# Altium schematic symbol library MPPTLib.SchLib: 34 symbols
Pins are listed as number, name and electrical type; pins without a type are passive.

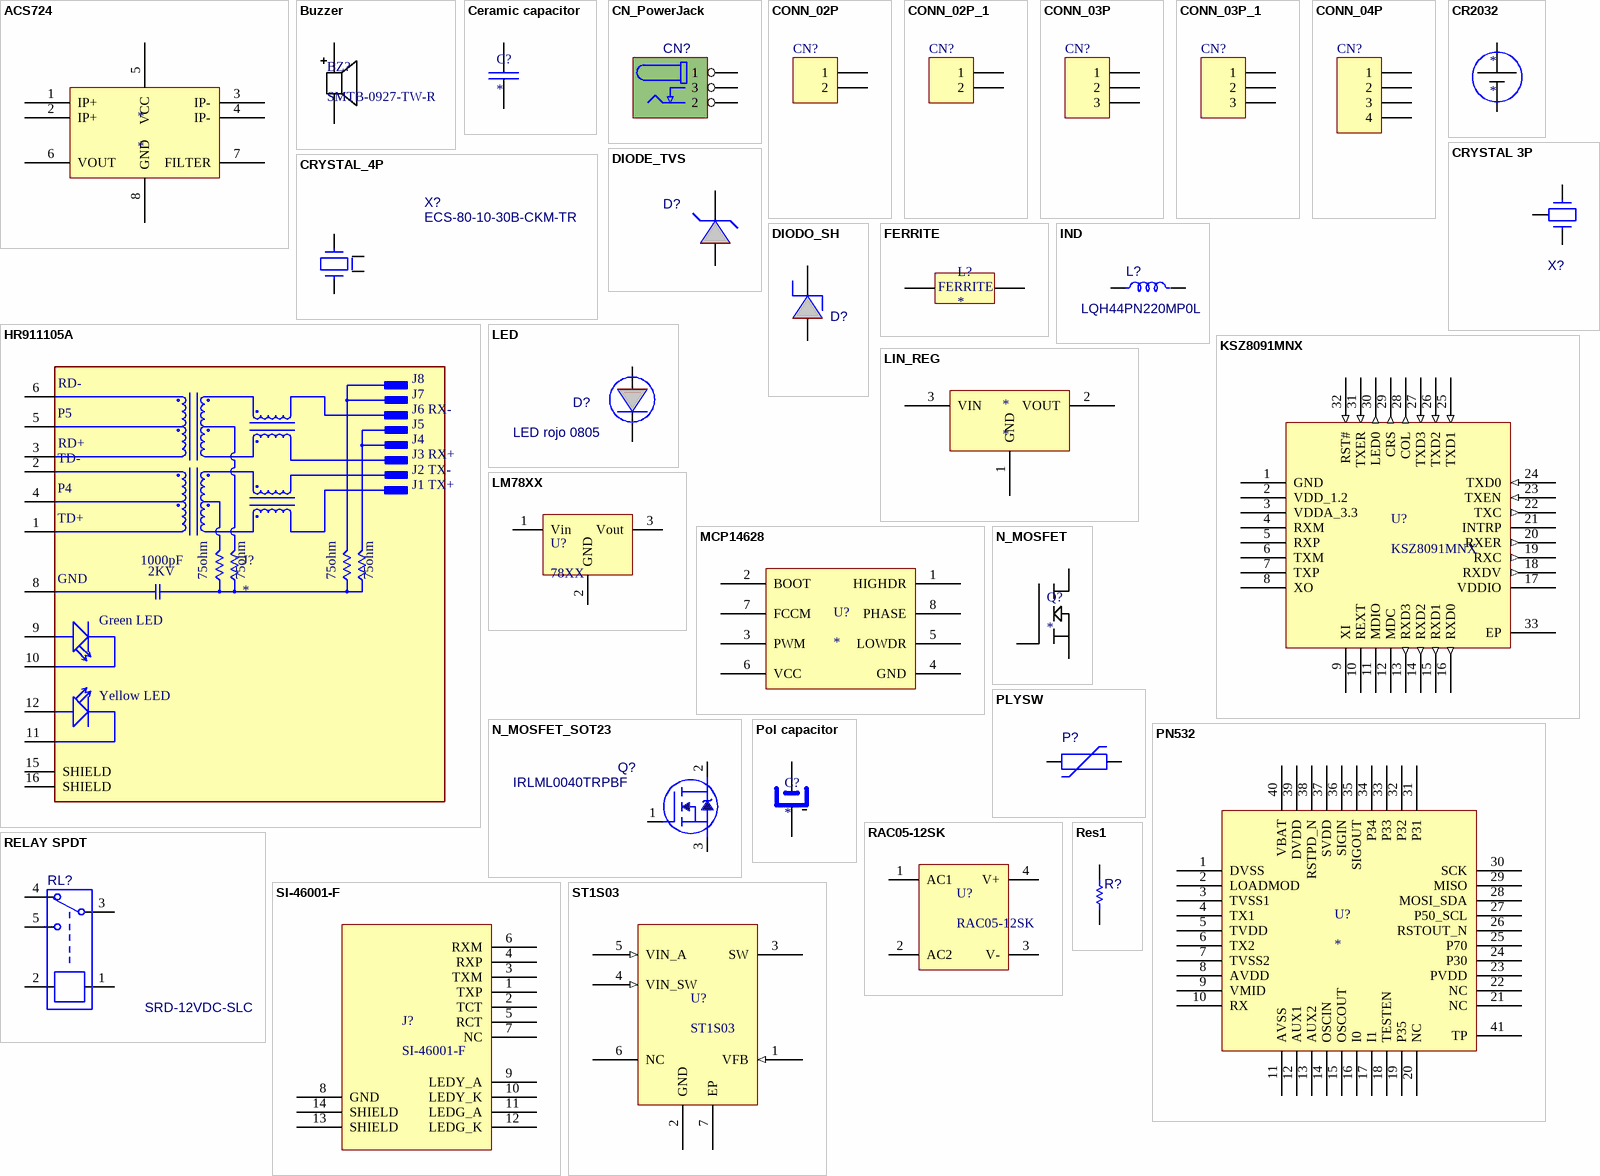
[diagram p0: symbols ACS724 to ST1S03]

## ACS724
designator *
pins: 1 IP+, 2 IP+, 3 IP-, 4 IP-, 5 VCC, 6 VOUT, 7 FILTER, 8 GND

## Buzzer
designator BZ?, comment SMTB-0927-TW-R
pins: 1, 2

## Ceramic capacitor
designator C?
Ceramic Capacitor
pins: 1, 2

## CN_PowerJack
designator CN?
Barrel Power Connector
pins: 1 (power), 2 (power), 3 (power)

## CONN_02P
designator CN?
Connector Generic 2 Vias
pins: 1, 2

## CONN_02P_1
designator CN?
Connector Generic 2 Vias
pins: 1, 2

## CONN_03P
designator CN?
Connector Generic 3 Vias
pins: 1, 2, 3

## CONN_03P_1
designator CN?
Connector Generic 3 Vias
pins: 1, 2, 3

## CONN_04P
designator CN?
Connector Generic 4 Vias
pins: 1, 2, 3, 4

## CR2032
designator *
pins: 1 V-, 2 V+

## CRYSTAL 3P
designator X?
Crystal 2 Vias + GND
footprint AB26TQF
pins: 1, 2, 3

## CRYSTAL_4P
designator X?, comment ECS-80-10-30B-CKM-TR
Crystal 4 Vias + GND
pins: 1, 2, 3, 4

## DIODE_TVS
designator D?
Unidirectional TVS
pins: 1 A, 2 K

## DIODO_SH
designator D?
Diode Shottky
pins: 1 A, 2 K

## FERRITE
designator L?
pins: 1 2, 2

## HR911105A
designator J?
DIP RJ45 Connector;; MP: HR911105A; Package: None; Value: *; Price: None; Availability: Unavailable
footprint HANRUN_HR911105A
pins: 1 TD+, 2 TD-, 3 RD+, 4 P4, 5 P5, 6 RD-, 8 GND (power), 9 GA, 10 GC, 11 YC, 12 YA, 15 SHIELD, 16 SHIELD
text: J8; J7; J6 RX-; J5; J4; J3 RX+; J2 TX-; J1 TX+; 1000pF; 2KV; 75ohm; Green LED; Yellow LED

## IND
designator L?, comment LQH44PN220MP0L
Inductor
pins: 1, 2

## KSZ8091MNX
designator U?
pins: 1 GND (power), 2 VDD_1.2 (power), 3 VDDA_3.3 (power), 4 RXM, 5 RXP, 6 TXM, 7 TXP, 8 XO, 9 XI, 10 REXT, 11 MDIO, 12 MDC, 13 RXD3 (out), 14 RXD2 (out), 15 RXD1 (out), 16 RXD0 (out), 17 VDDIO (power), 18 RXDV (out), 19 RXC (out), 20 RXER (out), 21 INTRP, 22 TXC (out), 23 TXEN (in), 24 TXD0 (in), 25 TXD1 (in), 26 TXD2 (in), 27 TXD3 (in), 28 COL (out), 29 CRS (out), 30 LED0 (out), 31 TXER (in), 32 RST# (in), 33 EP (power)

## LED
designator D?, comment LED rojo 0805
LED
pins: 1 A, 2 K

## LIN_REG
designator *
pins: 1 GND, 2 VOUT, 3 VIN

## LM78XX
designator U?, comment 78XX
Regulador de tension positiva
footprint TO-220 H
footprint TO-220 V
footprint TO-220 H - DISIPADOR
footprint TO92
footprint dpak
footprint d2pak
footprint SOT223
pins: 1 Vin, 2 GND, 3 Vout

## MCP14628
designator U?
pins: 1 HIGHDR, 2 BOOT, 3 PWM, 4 GND, 5 LOWDR, 6 VCC, 7 FCCM, 8 PHASE

## N_MOSFET
designator Q?
pins: 1 G, 2 D, 3 S

## N_MOSFET_SOT23
designator Q?, comment IRLML0040TRPBF
Mosfet N-Ch
pins: 1 GATE, 2 DRAIN, 3 SOURCE

## PLYSW
designator P?
Polyswitch
pins: 1, 2

## PN532
designator U?
pins: 1 DVSS, 2 LOADMOD, 3 TVSS1, 4 TX1, 5 TVDD, 6 TX2, 7 TVSS2, 8 AVDD, 9 VMID, 10 RX, 11 AVSS, 12 AUX1, 13 AUX2, 14 OSCIN, 15 OSCOUT, 16 I0, 17 I1, 18 TESTEN, 19 P35, 20 NC, 21 NC, 22 NC, 23 PVDD, 24 P30, 25 P70, 26 RSTOUT_N, 27 P50_SCL, 28 MOSI_SDA, 29 MISO, 30 SCK, 31 P31, 32 P32, 33 P33, 34 P34, 35 SIGOUT, 36 SIGIN, 37 SVDD, 38 RSTPD_N, 39 DVDD, 40 VBAT, 41 TP

## Pol capacitor
designator C?
Polarized Capacitor
pins: 1, 2

## RAC05-12SK
designator U?
pins: 1 AC1, 2 AC2, 3 V-, 4 V+

## RELAY SPDT
designator RL?, comment SRD-12VDC-SLC
Relay SPDT
pins: 1, 2, 3, 4, 5

## Res1
designator R?
Resistor
pins: 1, 2

## SI-46001-F
designator J?
RJ45 with Magentics
pins: 1 TXP, 2 TCT, 3 TXM, 4 RXP, 5 RCT, 6 RXM, 7 NC, 8 GND, 9 LEDY_A, 10 LEDY_K, 11 LEDG_A, 12 LEDG_K, 13 SHIELD, 14 SHIELD

## ST1S03
designator U?
pins: 1 VFB (in), 2 GND (power), 3 SW (power), 4 VIN_SW (in), 5 VIN_A (in), 6 NC, 7 EP (power)

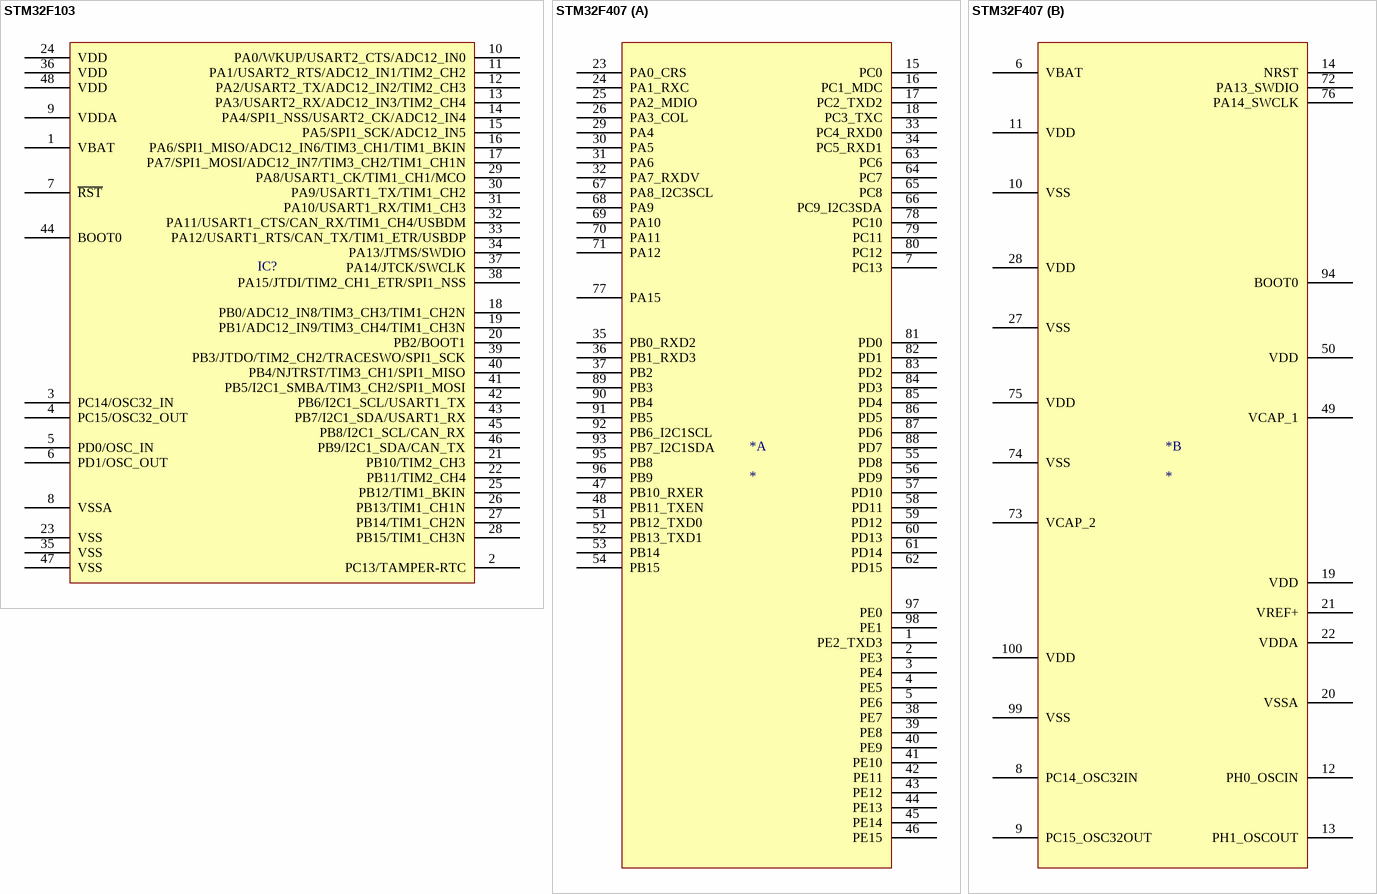
[diagram p1: symbols STM32F103 to STM32F407]

## STM32F103
designator IC?
pins: 1 VBAT, 2 PC13/TAMPER-RTC, 3 PC14/OSC32_IN, 4 PC15/OSC32_OUT, 5 PD0/OSC_IN, 6 PD1/OSC_OUT, 7 ~{RST} "NRST", 8 VSSA, 9 VDDA, 10 PA0/WKUP/USART2_CTS/ADC12_IN0, 11 PA1/USART2_RTS/ADC12_IN1/TIM2_CH2, 12 PA2/USART2_TX/ADC12_IN2/TIM2_CH3, 13 PA3/USART2_RX/ADC12_IN3/TIM2_CH4, 14 PA4/SPI1_NSS/USART2_CK/ADC12_IN4, 15 PA5/SPI1_SCK/ADC12_IN5, 16 PA6/SPI1_MISO/ADC12_IN6/TIM3_CH1/TIM1_BKIN, 17 PA7/SPI1_MOSI/ADC12_IN7/TIM3_CH2/TIM1_CH1N, 18 PB0/ADC12_IN8/TIM3_CH3/TIM1_CH2N, 19 PB1/ADC12_IN9/TIM3_CH4/TIM1_CH3N, 20 PB2/BOOT1, 21 PB10/TIM2_CH3, 22 PB11/TIM2_CH4, 23 VSS, 24 VDD, 25 PB12/TIM1_BKIN, 26 PB13/TIM1_CH1N, 27 PB14/TIM1_CH2N, 28 PB15/TIM1_CH3N, 29 PA8/USART1_CK/TIM1_CH1/MCO, 30 PA9/USART1_TX/TIM1_CH2, 31 PA10/USART1_RX/TIM1_CH3, 32 PA11/USART1_CTS/CAN_RX/TIM1_CH4/USBDM, 33 PA12/USART1_RTS/CAN_TX/TIM1_ETR/USBDP, 34 PA13/JTMS/SWDIO, 35 VSS, 36 VDD, 37 PA14/JTCK/SWCLK, 38 PA15/JTDI/TIM2_CH1_ETR/SPI1_NSS, 39 PB3/JTDO/TIM2_CH2/TRACESWO/SPI1_SCK, 40 PB4/NJTRST/TIM3_CH1/SPI1_MISO, 41 PB5/I2C1_SMBA/TIM3_CH2/SPI1_MOSI, 42 PB6/I2C1_SCL/USART1_TX, 43 PB7/I2C1_SDA/USART1_RX, 44 BOOT0, 45 PB8/I2C1_SCL/CAN_RX, 46 PB9/I2C1_SDA/CAN_TX, 47 VSS, 48 VDD

## STM32F407
designator *
part A pins: 1 PE2_TXD3, 2 PE3, 3 PE4, 4 PE5, 5 PE6, 7 PC13, 15 PC0, 16 PC1_MDC, 17 PC2_TXD2, 18 PC3_TXC, 23 PA0_CRS, 24 PA1_RXC, 25 PA2_MDIO, 26 PA3_COL, 29 PA4, 30 PA5, 31 PA6, 32 PA7_RXDV, 33 PC4_RXD0, 34 PC5_RXD1, 35 PB0_RXD2, 36 PB1_RXD3, 37 PB2, 38 PE7, 39 PE8, 40 PE9, 41 PE10, 42 PE11, 43 PE12, 44 PE13, 45 PE14, 46 PE15, 47 PB10_RXER, 48 PB11_TXEN, 51 PB12_TXD0, 52 PB13_TXD1, 53 PB14, 54 PB15, 55 PD8, 56 PD9, 57 PD10, 58 PD11, 59 PD12, 60 PD13, 61 PD14, 62 PD15, 63 PC6, 64 PC7, 65 PC8, 66 PC9_I2C3SDA, 67 PA8_I2C3SCL, 68 PA9, 69 PA10, 70 PA11, 71 PA12, 77 PA15, 78 PC10, 79 PC11, 80 PC12, 81 PD0, 82 PD1, 83 PD2, 84 PD3, 85 PD4, 86 PD5, 87 PD6, 88 PD7, 89 PB3, 90 PB4, 91 PB5, 92 PB6_I2C1SCL, 93 PB7_I2C1SDA, 95 PB8, 96 PB9, 97 PE0, 98 PE1
part B pins: 6 VBAT, 8 PC14_OSC32IN, 9 PC15_OSC32OUT, 10 VSS, 11 VDD, 12 PH0_OSCIN, 13 PH1_OSCOUT, 14 NRST, 19 VDD, 20 VSSA, 21 VREF+, 22 VDDA, 27 VSS, 28 VDD, 49 VCAP_1, 50 VDD, 72 PA13_SWDIO, 73 VCAP_2, 74 VSS, 75 VDD, 76 PA14_SWCLK, 94 BOOT0, 99 VSS, 100 VDD